# EAGLE library part PINHEAD_2X10 (library pinhead)
20 Position Receptacle Connector 0.079" (2.00mm) Surface Mount Gold
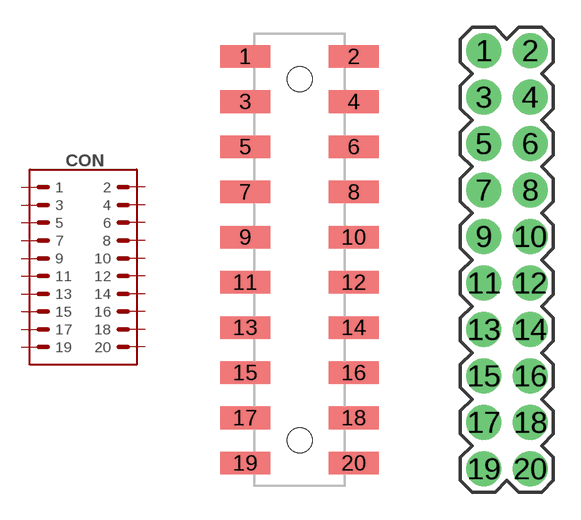
[diagram p16: symbol with the pads of A3A-20DA-2SV; footprints A3A-20DA-2SV, 2X10-PTH-2.54]

Designator prefix CON

## PINHEAD_2X10-HIROSE (DIGIKEY#: H10978-ND; MANF: Hirose Electric Co Ltd; MANF#: A3A-20DA-2SV(71))  [A3A-20DA-2SV]
1  1  pas
2  2  pas
3  3  pas
4  4  pas
5  5  pas
6  6  pas
7  7  pas
8  8  pas
9  9  pas
10  10  pas
11  11  pas
12  12  pas
13  13  pas
14  14  pas
15  15  pas
16  16  pas
17  17  pas
18  18  pas
19  19  pas
20  20  pas

## PINHEAD_2X10-2.54-TH  [2X10-PTH-2.54]
Pads as for A3A-20DA-2SV

## PINHEAD_2X10-2.54-TH-FEMALE  [2X10-PTH-2.54-FEMALE]
Pads as for A3A-20DA-2SV

## PINHEAD_2X10-2.54-TH-FEMALE-LONG (DIGIKEY#: SAM10741-ND; MANF: Samtec Inc; MANF#: SSQ-110-23-G-D)  [2X10-PTH-2.54-FEMALE-LONG-PINS]
Pads as for A3A-20DA-2SV

## Footprint A3A-20DA-2SV (pad centres in mm)
smd 2.2 x 1: 1 -2.4,9; 2 2.4,9; 3 -2.4,7; 4 2.4,7; 5 -2.4,5; 6 2.4,5; 7 -2.4,3; 8 2.4,3; 9 -2.4,1; 10 2.4,1; 11 -2.4,-1; 12 2.4,-1; 13 -2.4,-3; 14 2.4,-3; 15 -2.4,-5; 16 2.4,-5; 17 -2.4,-7; 18 2.4,-7; 19 -2.4,-9; 20 2.4,-9
hole 1.1 at 0,-8
hole 1.1 at 0,8

## Footprint 2X10-PTH-2.54 (pad centres in mm)
drill 1 pad 1.9: 1 -1.27,11.43; 2 1.27,11.43; 3 -1.27,8.89; 4 1.27,8.89; 5 -1.27,6.35; 6 1.27,6.35; 7 -1.27,3.81; 8 1.27,3.81; 9 -1.27,1.27; 10 1.27,1.27; 11 -1.27,-1.27; 12 1.27,-1.27; 13 -1.27,-3.81; 14 1.27,-3.81; 15 -1.27,-6.35; 16 1.27,-6.35; 17 -1.27,-8.89; 18 1.27,-8.89; 19 -1.27,-11.43; 20 1.27,-11.43

## Footprint 2X10-PTH-2.54-FEMALE (pad centres in mm)
drill 1.016 octagon: 1 -1.27,11.43; 2 1.27,11.43; 3 -1.27,8.89; 4 1.27,8.89; 5 -1.27,6.35; 6 1.27,6.35; 7 -1.27,3.81; 8 1.27,3.81; 9 -1.27,1.27; 10 1.27,1.27; 11 -1.27,-1.27; 12 1.27,-1.27; 13 -1.27,-3.81; 14 1.27,-3.81; 15 -1.27,-6.35; 16 1.27,-6.35; 17 -1.27,-8.89; 18 1.27,-8.89; 19 -1.27,-11.43; 20 1.27,-11.43

## Footprint 2X10-PTH-2.54-FEMALE-LONG-PINS (pad centres in mm)
drill 1.016 octagon: 1 -1.27,11.43; 2 1.27,11.43; 3 -1.27,8.89; 4 1.27,8.89; 5 -1.27,6.35; 6 1.27,6.35; 7 -1.27,3.81; 8 1.27,3.81; 9 -1.27,1.27; 10 1.27,1.27; 11 -1.27,-1.27; 12 1.27,-1.27; 13 -1.27,-3.81; 14 1.27,-3.81; 15 -1.27,-6.35; 16 1.27,-6.35; 17 -1.27,-8.89; 18 1.27,-8.89; 19 -1.27,-11.43; 20 1.27,-11.43